# EAGLE library part ISP1507 (library ISP1507)
ISP1507 BLE Module Based on the nRF52832 Bluetooth Low Energy Chip with Integrated Antenna, oscillators and Power Supply http://www.insightsip.com/products/bluetooth-smart-modules/isp1507
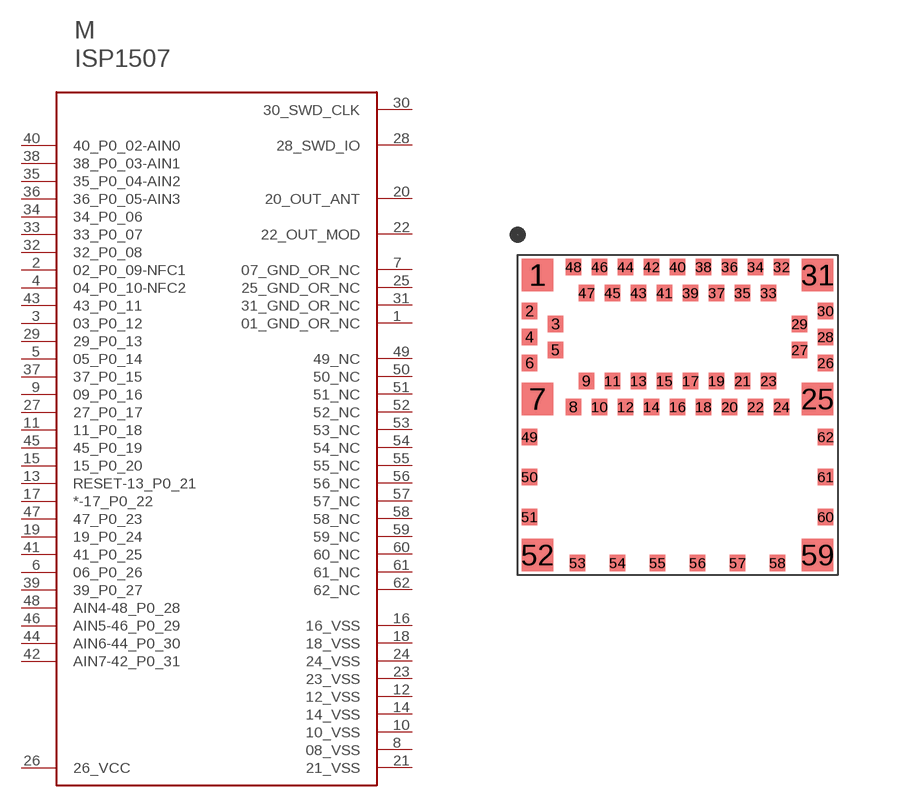
[diagram p0: symbol with the pads of ISP1507; footprint ISP1507]

Designator prefix M

## ISP1507  [ISP1507]
1  01_GND_OR_NC  pwr
2  02_P0_09-NFC1
3  03_P0_12
4  04_P0_10-NFC2
5  05_P0_14
6  06_P0_26
7  07_GND_OR_NC  pwr
8  08_VSS  pwr
9  09_P0_16
10  10_VSS  pwr
11  11_P0_18
12  12_VSS  pwr
13  RESET-13_P0_21
14  14_VSS  pwr
15  15_P0_20
16  16_VSS  pwr
17  *-17_P0_22
18  18_VSS  pwr
19  19_P0_24
20  20_OUT_ANT
21  21_VSS  pwr
22  22_OUT_MOD
23  23_VSS  pwr
24  24_VSS  pwr
25  25_GND_OR_NC  pwr
26  26_VCC  pwr
27  27_P0_17
28  28_SWD_IO
29  29_P0_13
30  30_SWD_CLK
31  31_GND_OR_NC  pwr
32  32_P0_08
33  33_P0_07
34  34_P0_06
35  35_P0_04-AIN2
36  36_P0_05-AIN3
37  37_P0_15
38  38_P0_03-AIN1
39  39_P0_27
40  40_P0_02-AIN0
41  41_P0_25
42  AIN7-42_P0_31
43  43_P0_11
44  AIN6-44_P0_30
45  45_P0_19
46  AIN5-46_P0_29
47  47_P0_23
48  AIN4-48_P0_28
49  49_NC  nc
50  50_NC  nc
51  51_NC  nc
52  52_NC  nc
53  53_NC  nc
54  54_NC  nc
55  55_NC  nc
56  56_NC  nc
57  57_NC  nc
58  58_NC  nc
59  59_NC  nc
60  60_NC  nc
61  61_NC  nc
62  62_NC  nc

## Footprint ISP1507 (pad centres in mm)
smd 0.8 x 0.8: 1 0.5,7.5; 7 0.5,4.4; 25 7.5,4.4; 31 7.5,7.5; 52 0.5,0.5; 59 7.5,0.5
smd 0.4 x 0.4: 2 0.3,6.6; 3 0.95,6.275; 4 0.3,5.95; 5 0.95,5.625; 6 0.3,5.3; 8 1.4,4.2; 9 1.725,4.85; 10 2.05,4.2; 11 2.375,4.85; 12 2.7,4.2; 13 3.025,4.85; 14 3.35,4.2; 15 3.675,4.85; 16 4,4.2; 17 4.325,4.85; 18 4.65,4.2; 19 4.975,4.85; 20 5.3,4.2; 21 5.625,4.85; 22 5.95,4.2; 23 6.275,4.85; 24 6.6,4.2; 26 7.7,5.3; 27 7.05,5.625; 28 7.7,5.95; 29 7.05,6.275; 30 7.7,6.6; 32 6.6,7.7; 33 6.275,7.05; 34 5.95,7.7; 35 5.625,7.05; 36 5.3,7.7; 37 4.975,7.05; 38 4.65,7.7; 39 4.325,7.05; 40 4,7.7; 41 3.675,7.05; 42 3.35,7.7; 43 3.025,7.05; 44 2.7,7.7; 45 2.375,7.05; 46 2.05,7.7; 47 1.725,7.05; 48 1.4,7.7; 49 0.3,3.45; 50 0.3,2.45; 51 0.3,1.45; 53 1.5,0.3; 54 2.5,0.3; 55 3.5,0.3; 56 4.5,0.3; 57 5.5,0.3; 58 6.5,0.3; 60 7.7,1.45; 61 7.7,2.45; 62 7.7,3.45